# Altium schematic symbol library 53261-0871.SchLib: 1 symbol
Pins are listed as number, name and electrical type; pins without a type are passive.

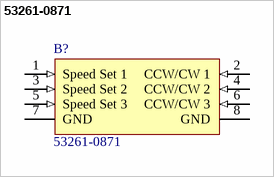
[diagram p0: symbol 53261-0871]

## 53261-0871
designator B?
Molex PICOBLADE Series, Series Number 53261, 1.25mm Pitch, 8 Way 1 Row Shrouded Right Angle PCB Header, Surface Mount; Geometry.Height: mm; Supplier_Name: RS; RS Part Number: 5427157P; Manufacturer_Name: Molex; Manufacturer_Part_Number: 53261-0871; Allied_Number: *; Other Part Number: *; Datasheet Link: http://www.molex.com/webdocs/datasheets/pdf/en-us/0532610871_PCB_HEADERS.pdf; 3D Package: *
footprint 53261-0871
pins: 1 Speed Set 1 (in), 2 CCW/CW 1 (in), 3 Speed Set 2 (in), 4 CCW/CW 2 (in), 5 Speed Set 3 (in), 6 CCW/CW 3 (in), 7 GND (power), 8 GND (power)